# Altium footprint library Base.PcbLib: 18 footprints (part 1 of 2)
Each footprint in its own frame and in the unit in brackets; x right, y up, seen from the top. Pads: shape width x height; smd on the part's side, far side on the other; paste and mask are expansions set on the pad; w line width, h text height; cw(c..) or ccw(c..) is an arc to the next point about the centre after c.
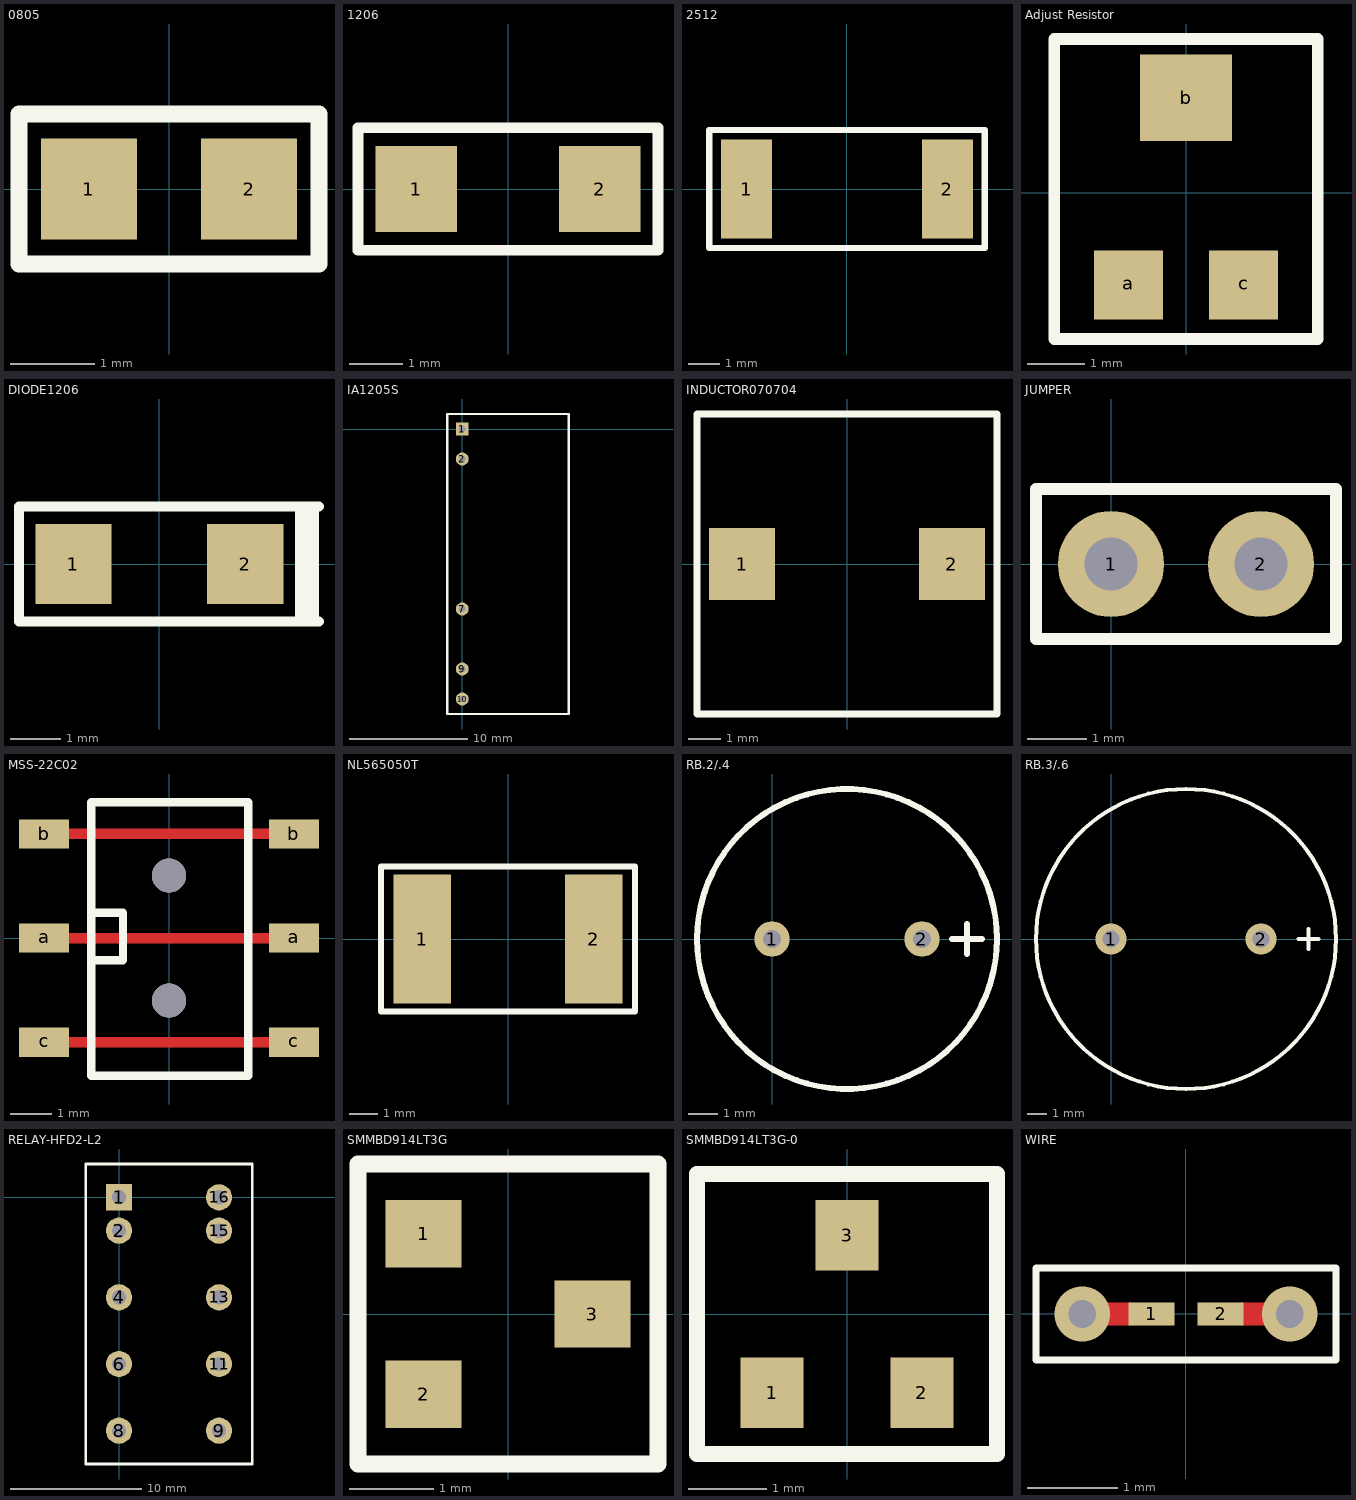
[diagram p0: the footprints below, top view; thin cyan lines are the x and y axes]

## 0805 [mm]
pads (2):
  rect 1.14x1.2 smd: 1(-0.95,0) 2(0.95,0)
Top Overlay:
  lines w0.2: -1.778,-0.889 1.778,-0.889 1.778,0.889 -1.778,0.889 -1.778,0.172 -1.778,-0.889

## 1206 [mm]
pads (2):
  rect 1.52x1.6 smd: 1(-1.71,0) 2(1.71,0)
Top Overlay:
  lines w0.2: -2.794,-1.143 2.794,-1.143 2.794,1.143 0.982,1.143 -0.982,1.143 -2.794,1.143 -2.794,-0.91 -2.794,-1.143

## 2512 [mm]
pads (2):
  rect 1.65x3.2 smd: 1(-3.24,0) 2(3.24,0)
Top Overlay:
  lines w0.2: -4.445,-1.905 4.445,-1.905 4.445,1.905 0.828,1.905 -0.827,1.905 -2.411,1.905 -4.445,1.905 -4.445,-0.98 -4.445,-1.905

## Adjust Resistor [mm] "3 * 3"
pads (3):
  rect 1.2x1.2 smd: a(-1,-1.6) c(1,-1.6)
  rect 1.6x1.5 smd: b(0,1.65)
Top Overlay:
  lines w0.2: -2.286,-2.54 2.286,-2.54 2.286,2.667 -2.286,2.667 -2.286,-2.54

## DIODE1206 [mm]
pads (2):
  rect 1.52x1.6 smd: 1(-1.71,0) 2(1.71,0)
Top Overlay:
  lines w0.2: 3.175,-1.143 2.794,-1.143 ; 3.175,1.143 2.794,1.143 ; 2.794,-1.143 2.794,1.143 ; 2.794,-1.143 -2.794,-1.143 -2.794,-0.91 -2.794,1.143 -0.982,1.143 0.982,1.143 2.794,1.143
  lines w0.254: 2.921,-1.016 3.048,-1.016 3.048,-0.889 ; 2.921,-1.016 3.048,-0.889 ; 2.921,-1.016 2.921,0.889 3.048,1.016 ; 2.921,-1.016 2.921,-0.889 2.921,1.016 3.048,1.016 ; 3.048,-0.889 3.048,1.016

## IA1205S [mm]
pads (5):
  rect 1.1x1.1 hole 0.55: 1(0,0)
  round 1.1 hole 0.55: 2(0,-2.54) 7(0,-15.24) 9(0,-20.32) 10(0,-22.86)
Top Overlay:
  lines w0.2: -1.27,-24.13 -1.27,1.27 0.865,1.27 9.017,1.27 9.017,-24.13 -1.27,-24.13

## INDUCTOR070704 [mm]
pads (2):
  rect 2x2.2 smd: 1(-3.2,0) 2(3.2,0)
Top Overlay:
  lines w0.2: -4.572,-4.572 4.572,-4.572 4.572,4.572 -4.572,4.572 -4.572,-4.572

## JUMPER [mm]
pads (2):
  round 1.8 hole 0.9: 1(0,0) 2(2.54,0)
Top Overlay:
  lines w0.2: 0.635,1.27 3.81,1.27 3.81,-1.27 -1.27,-1.27 -1.27,1.27 1.905,1.27

## MSS-22C02 [mm]
pads (8):
  rect 1.2x0.7 smd: a(-3,0) a(3,0) b(-3,2.5) b(3,2.5) c(-3,-2.5) c(3,-2.5)
  round 0.82 hole 0.82: ""(0,-1.5) ""(0,1.5)
Top Layer:
  lines w0.254: -3,-2.5 3,-2.5 ; -3,0 3,0 ; -3,2.5 3,2.5
Top Overlay:
  lines w0.2: -1.865,-0.532 -1.103,-0.532 -1.103,0.611 -1.865,0.611 ; -1.865,-3.302 -1.865,3.258 0.117,3.258 1.905,3.258 1.905,-3.302 -1.865,-3.302

## NL565050T [mm]
pads (2):
  rect 2x4.5 smd: 1(-3,0) 2(3,0)
Top Overlay:
  lines w0.2: -4.445,-2.54 -4.445,2.54 4.445,2.54 4.445,-2.54 -4.445,-2.54

## RB.2/.4 [mm]
pads (2):
  round 1.2 hole 0.6: 1(0,0) 2(5.08,0)
Top Overlay:
  circle w0.2: c2.54,0 r5.08
  lines w0.2: 6.096,0 7.112,0 ; 6.604,-0.508 6.604,0.508

## RB.3/.6 [mm]
pads (2):
  round 1.6 hole 0.85: 1(0,0) 2(7.62,0)
Top Overlay:
  circle w0.2: c3.81,0 r7.62
  lines w0.2: 9.525,0 10.541,0 ; 10.033,-0.508 10.033,0.508

## RELAY-HFD2-L2 [mm]
pads (10):
  rect 2x2 hole 1.1: 1(0,0)
  round 2 hole 1.1: 2(0,-2.54) 4(0,-7.62) 6(0,-12.7) 8(0,-17.78) 9(7.62,-17.78) 11(7.62,-12.7) 13(7.62,-7.62) 15(7.62,-2.54) 16(7.62,0)
Top Overlay:
  lines w0.2: -2.54,-20.32 10.16,-20.32 10.16,2.54 3.175,2.54 -2.54,2.54 -2.54,-6.407 -2.54,-9.595 -2.54,-20.32

## SMMBD914LT3G [mm]
pads (3):
  rect 0.9x0.8 smd: 1(-1,0.95) 2(-1,-0.95) 3(1,0)
Top Overlay:
  lines w0.2: -1.778,-1.778 1.778,-1.778 1.778,1.778 -1.778,1.778 -1.778,-1.778

## SMMBD914LT3G-0 [mm]
pads (3):
  rect 0.8x0.9 smd: 1(-0.95,-1) 2(0.95,-1) 3(0,1)
Top Overlay:
  lines w0.2: -1.905,-1.778 1.905,-1.778 1.905,1.778 -1.905,1.778 -1.905,-1.778

## WIRE [mil]
pads (2):
  rect 20x10 smd mask+5: 1(-15,0) 2(15,0)
via -45,0 diameter 24 hole 12
via 45,0 diameter 24 hole 12
Top Layer:
  lines w10: -45,0 -25,0 ; 25,0 45,0
Top Overlay:
  lines w3: -65,-20 65,-20 65,20 -65,20 -65,-20